# EAGLE library part VNQ5E160K-E (library mike-temp)
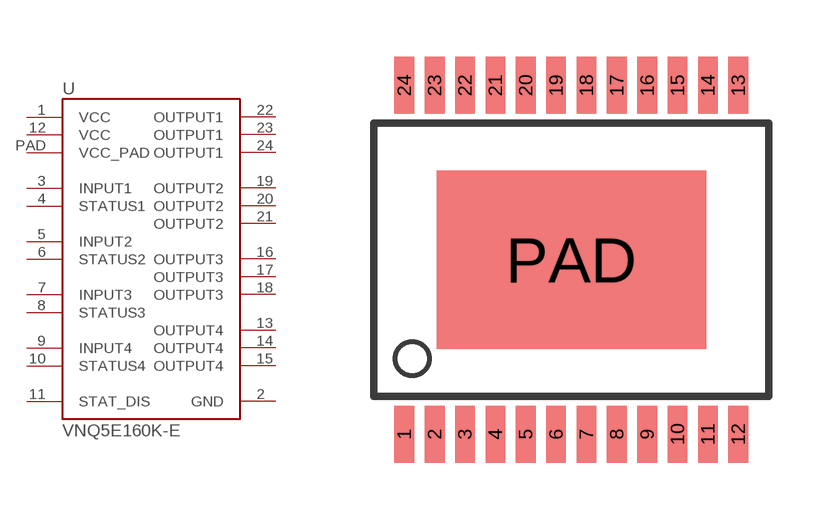
[diagram p45: symbol with the pads of POWERSSO-24; footprint POWERSSO-24]

Designator prefix U

## VNQ5E160K-E  [POWERSSO-24]
1  VCC  pwr
2  GND  pwr
3  INPUT1  in
4  STATUS1  out
5  INPUT2  in
6  STATUS2  out
7  INPUT3  in
8  STATUS3  out
9  INPUT4  in
10  STATUS4  out
11  STAT_DIS  in
12  VCC  pwr
13  OUTPUT4  out
14  OUTPUT4  out
15  OUTPUT4  out
16  OUTPUT3  out
17  OUTPUT3  out
18  OUTPUT3  out
19  OUTPUT2  out
20  OUTPUT2  out
21  OUTPUT2  out
22  OUTPUT1  out
23  OUTPUT1  out
24  OUTPUT1  out
PAD  VCC_PAD  pwr

## Footprint POWERSSO-24 (pad centres in mm)
smd 0.52 x 1.5: 1 -4.4,-4.6; 2 -3.6,-4.6; 3 -2.8,-4.6; 4 -2,-4.6; 5 -1.2,-4.6; 6 -0.4,-4.6; 7 0.4,-4.6; 8 1.2,-4.6; 9 2,-4.6; 10 2.8,-4.6; 11 3.6,-4.6; 12 4.4,-4.6; 13 4.4,4.6; 14 3.6,4.6; 15 2.8,4.6; 16 2,4.6; 17 1.2,4.6; 18 0.4,4.6; 19 -0.4,4.6; 20 -1.2,4.6; 21 -2,4.6; 22 -2.8,4.6; 23 -3.6,4.6; 24 -4.4,4.6
smd 7.1 x 4.7: PAD 0,0